# EAGLE library part ADS1 (library Eagle_CAD_parts)
Analog to Digital Converter 4 Input 1 Sigma-Delta
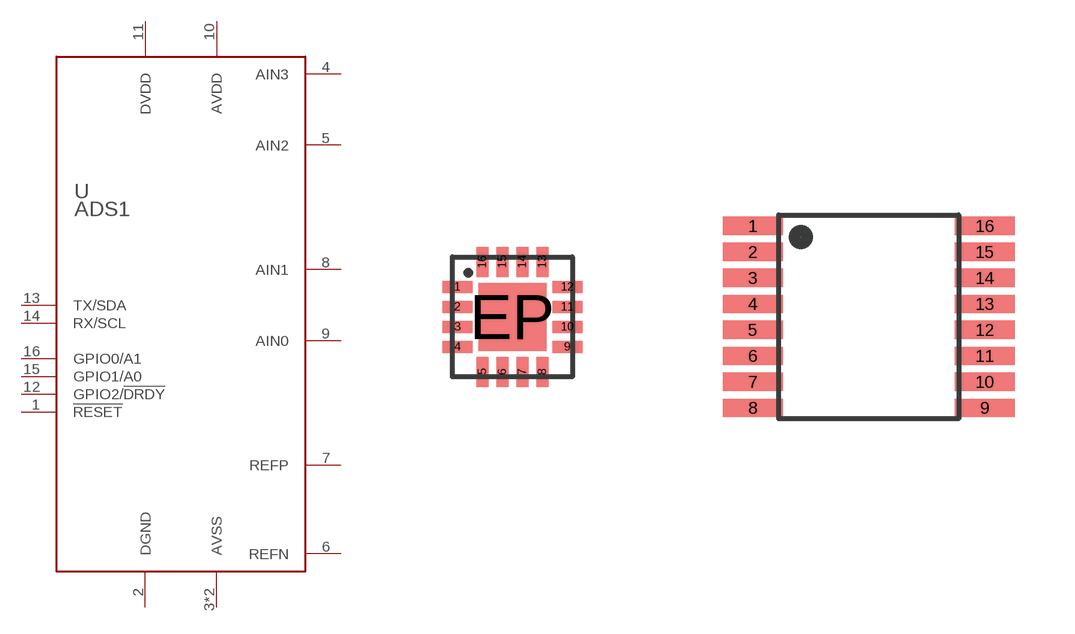
[diagram p67: symbol with the pads of 16-WQFN-3X3; footprints 16-WQFN-3X3, 16-TSSOP]

Designator prefix U

## ADS112U04-WQFN (DIGIKEY_PART_NUMBER: 296-53162-1-ND; IFACE: UART; MANUFACTURER_PART_NUMBER: ADS112U04IRTER; RESOLUTION: 16 Bits; SPS: 2 kSPS)  [16-WQFN-3X3]
1  !RESET
2  DGND
3  AVSS
4  AIN3
5  AIN2
6  REFN
7  REFP
8  AIN1
9  AIN0
10  AVDD
11  DVDD
12  GPIO2/!DRDY
13  TX/SDA
14  RX/SCL
15  GPIO1/A0
16  GPIO0/A1
EP  AVSS

## ADS122U04-WQFN (DIGIKEY_PART_NUMBER: 296-50887-1-ND; IFACE: UART; MANUFACTURER_PART_NUMBER: ADS122U04IRTER; RESOLUTION: 24 Bits; SPS: 2 kSPS)  [16-WQFN-3X3]
Pads as for 16-WQFN-3X3

## ADS112C04-WQFN (DIGIKEY_PART_NUMBER: 296-53160-1-ND; IFACE: I2C; MANUFACTURER_PART_NUMBER: ADS112C04IRTER; RESOLUTION: 16 Bits; SPS: 2 kSPS)  [16-WQFN-3X3]
Pads as for 16-WQFN-3X3

## ADS122C04-WQFN (DIGIKEY_PART_NUMBER: 296-50886-1-ND; IFACE: I2C; MANUFACTURER_PART_NUMBER: ADS122C04IRTER; RESOLUTION: 24 Bits; SPS: 2 kSPS)  [16-WQFN-3X3]
Pads as for 16-WQFN-3X3

## ADS112C04-TSSOP (DIGIKEY_PART_NUMBER: 296-50875-1-ND; IFACE: I2C; MANUFACTURER_PART_NUMBER: ADS112C04IPWR; RESOLUTION: 16 bits; SPS: 2 kSPS)  [16-TSSOP]
1  GPIO1/A0
2  GPIO0/A1
3  !RESET
4  DGND
5  AVSS
6  AIN3
7  AIN2
8  REFN
9  REFP
10  AIN1
11  AIN0
12  AVDD
13  DVDD
14  GPIO2/!DRDY
15  TX/SDA
16  RX/SCL

## Footprint 16-WQFN-3X3 (pad centres in mm)
smd 0.75 x 0.3: 1 -1.375,0.75; 2 -1.375,0.25; 3 -1.375,-0.25; 4 -1.375,-0.75; 9 1.375,-0.75; 10 1.375,-0.25; 11 1.375,0.25; 12 1.375,0.75
smd 0.3 x 0.75: 5 -0.75,-1.375; 6 -0.25,-1.375; 7 0.25,-1.375; 8 0.75,-1.375; 13 0.75,1.375; 14 0.25,1.375; 15 -0.25,1.375; 16 -0.75,1.375
smd 1.7 x 1.7: EP 0,0

## Footprint 16-TSSOP (pad centres in mm)
smd 1.5 x 0.45: 1 -2.9,2.275; 2 -2.9,1.625; 3 -2.9,0.975; 4 -2.9,0.325; 5 -2.9,-0.325; 6 -2.9,-0.975; 7 -2.9,-1.625; 8 -2.9,-2.275; 9 2.9,-2.275; 10 2.9,-1.625; 11 2.9,-0.975; 12 2.9,-0.325; 13 2.9,0.325; 14 2.9,0.975; 15 2.9,1.625; 16 2.9,2.275